# EAGLE library part W7100A_100 (library WIZnet)
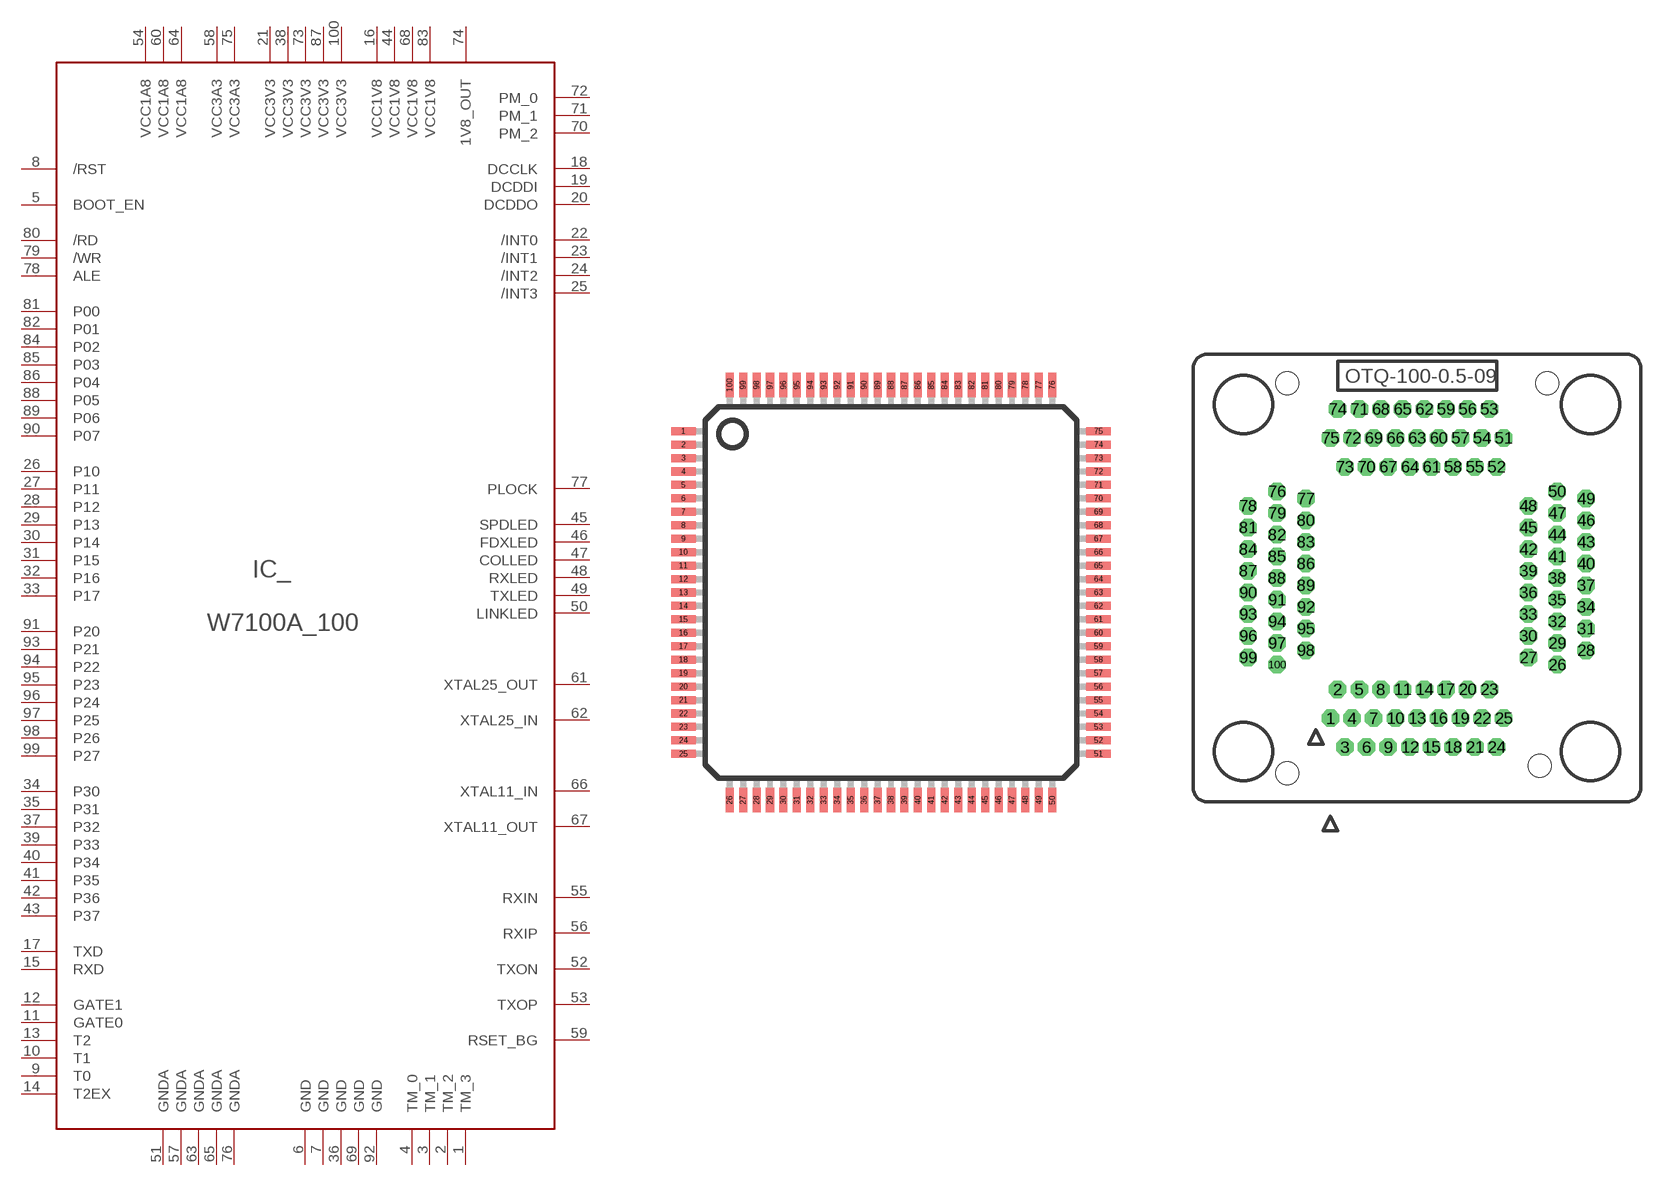
[diagram p5: symbol with the pads of LQFP_100; footprints LQFP_100, OTQ-100-05-09]

Designator prefix IC_

## W7100A_100'STANDARD'  [LQFP_100]
1  TM_3
2  TM_2
3  TM_1
4  TM_0
5  BOOT_EN
6  GND
7  GND
8  /RST
9  T0
10  T1
11  GATE0
12  GATE1
13  T2
14  T2EX
15  RXD
16  VCC1V8
17  TXD
18  DCCLK
19  DCDDI
20  DCDDO
21  VCC3V3
22  /INT0
23  /INT1
24  /INT2
25  /INT3
26  P10
27  P11
28  P12
29  P13
30  P14
31  P15
32  P16
33  P17
34  P30
35  P31
36  GND
37  P32
38  VCC3V3
39  P33
40  P34
41  P35
42  P36
43  P37
44  VCC1V8
45  SPDLED
46  FDXLED
47  COLLED
48  RXLED
49  TXLED
50  LINKLED
51  GNDA
52  TXON
53  TXOP
54  VCC1A8
55  RXIN
56  RXIP
57  GNDA
58  VCC3A3
59  RSET_BG
60  VCC1A8
61  XTAL25_OUT
62  XTAL25_IN
63  GNDA
64  VCC1A8
65  GNDA
66  XTAL11_IN
67  XTAL11_OUT
68  VCC1V8
69  GND
70  PM_2
71  PM_1
72  PM_0
73  VCC3V3
74  1V8_OUT
75  VCC3A3
76  GNDA
77  PLOCK
78  ALE
79  /WR
80  /RD
81  P00
82  P01
83  VCC1V8
84  P02
85  P03
86  P04
87  VCC3V3
88  P05
89  P06
90  P07
91  P20
92  GND
93  P21
94  P22
95  P23
96  P24
97  P25
98  P26
99  P27
100  VCC3V3

## W7100A_100'TESTSOCKET'  [OTQ-100-05-09]
Pads as for LQFP_100

## Footprint LQFP_100 (pad centres in mm)
smd 0.9 x 0.3: 1 -7.72,6; 2 -7.72,5.5; 3 -7.72,5; 4 -7.72,4.5; 5 -7.72,4; 6 -7.72,3.5; 7 -7.72,3; 8 -7.72,2.5; 9 -7.72,2; 10 -7.72,1.5; 11 -7.72,1; 12 -7.72,0.5; 13 -7.72,0; 14 -7.72,-0.5; 15 -7.72,-1; 16 -7.72,-1.5; 17 -7.72,-2; 18 -7.72,-2.5; 19 -7.72,-3; 20 -7.72,-3.5; 21 -7.72,-4; 22 -7.72,-4.5; 23 -7.72,-5; 24 -7.72,-5.5; 25 -7.72,-6; 51 7.72,-6; 52 7.72,-5.5; 53 7.72,-5; 54 7.72,-4.5; 55 7.72,-4; 56 7.72,-3.5; 57 7.72,-3; 58 7.72,-2.5; 59 7.72,-2; 60 7.72,-1.5; 61 7.72,-1; 62 7.72,-0.5; 63 7.72,0; 64 7.72,0.5; 65 7.72,1; 66 7.72,1.5; 67 7.72,2; 68 7.72,2.5; 69 7.72,3; 70 7.72,3.5; 71 7.72,4; 72 7.72,4.5; 73 7.72,5; 74 7.72,5.5; 75 7.72,6
smd 0.3 x 0.9: 26 -6,-7.72; 27 -5.5,-7.72; 28 -5,-7.72; 29 -4.5,-7.72; 30 -4,-7.72; 31 -3.5,-7.72; 32 -3,-7.72; 33 -2.5,-7.72; 34 -2,-7.72; 35 -1.5,-7.72; 36 -1,-7.72; 37 -0.5,-7.72; 38 0,-7.72; 39 0.5,-7.72; 40 1,-7.72; 41 1.5,-7.72; 42 2,-7.72; 43 2.5,-7.72; 44 3,-7.72; 45 3.5,-7.72; 46 4,-7.72; 47 4.5,-7.72; 48 5,-7.72; 49 5.5,-7.72; 50 6,-7.72; 76 6,7.72; 77 5.5,7.72; 78 5,7.72; 79 4.5,7.72; 80 4,7.72; 81 3.5,7.72; 82 3,7.72; 83 2.5,7.72; 84 2,7.72; 85 1.5,7.72; 86 1,7.72; 87 0.5,7.72; 88 0,7.72; 89 -0.5,7.72; 90 -1,7.72; 91 -1.5,7.72; 92 -2,7.72; 93 -2.5,7.72; 94 -3,7.72; 95 -3.5,7.72; 96 -4,7.72; 97 -4.5,7.72; 98 -5,7.72; 99 -5.5,7.72; 100 -6,7.72

## Footprint OTQ-100-05-09 (pad centres in mm)
drill 0.7 octagon: 1 -6,-9.7; 2 -5.5,-7.7; 3 -5,-11.7; 4 -4.5,-9.7; 5 -4,-7.7; 6 -3.5,-11.7; 7 -3,-9.7; 8 -2.5,-7.7; 9 -2,-11.7; 10 -1.5,-9.7; 11 -1,-7.7; 12 -0.5,-11.7; 13 0,-9.7; 14 0.5,-7.7; 15 1,-11.7; 16 1.5,-9.7; 17 2,-7.7; 18 2.5,-11.7; 19 3,-9.7; 20 3.5,-7.7; 21 4,-11.7; 22 4.5,-9.7; 23 5,-7.7; 24 5.5,-11.7; 25 6,-9.7; 26 9.7,-6; 27 7.7,-5.5; 28 11.7,-5; 29 9.7,-4.5; 30 7.7,-4; 31 11.7,-3.5; 32 9.7,-3; 33 7.7,-2.5; 34 11.7,-2; 35 9.7,-1.5; 36 7.7,-1; 37 11.7,-0.5; 38 9.7,0; 39 7.7,0.5; 40 11.7,1; 41 9.7,1.5; 42 7.7,2; 43 11.7,2.5; 44 9.7,3; 45 7.7,3.5; 46 11.7,4; 47 9.7,4.5; 48 7.7,5; 49 11.7,5.5; 50 9.7,6; 51 6,9.7; 52 5.5,7.7; 53 5,11.7; 54 4.5,9.7; 55 4,7.7; 56 3.5,11.7; 57 3,9.7; 58 2.5,7.7; 59 2,11.7; 60 1.5,9.7; 61 1,7.7; 62 0.5,11.7; 63 0,9.7; 64 -0.5,7.7; 65 -1,11.7; 66 -1.5,9.7; 67 -2,7.7; 68 -2.5,11.7; 69 -3,9.7; 70 -3.5,7.7; 71 -4,11.7; 72 -4.5,9.7; 73 -5,7.7; 74 -5.5,11.7; 75 -6,9.7; 76 -9.7,6; 77 -7.7,5.5; 78 -11.7,5; 79 -9.7,4.5; 80 -7.7,4; 81 -11.7,3.5; 82 -9.7,3; 83 -7.7,2.5; 84 -11.7,2; 85 -9.7,1.5; 86 -7.7,1; 87 -11.7,0.5; 88 -9.7,0; 89 -7.7,-0.5; 90 -11.7,-1; 91 -9.7,-1.5; 92 -7.7,-2; 93 -11.7,-2.5; 94 -9.7,-3; 95 -7.7,-3.5; 96 -11.7,-4; 97 -9.7,-4.5; 98 -7.7,-5; 99 -11.7,-5.5; 100 -9.7,-6
hole 1.6 at -9,-13.5
hole 1.6 at -9,13.5
hole 1.6 at 9,13.5
hole 1.6 at 8.5,-13